# EAGLE library part A152-1066M1 (library saw-filters-narrowband)
A152-1066M1 Параметр Ед. изм. Мин. значение Тип. значение Макс. значение Центральная частота МГц 1064 1066 1068 Минимальное вносимое затухание дБ 2.3 2.5 2.8 Полоса среза по уровню -2 дБ МГц 39 41 43 Полоса среза по уровню -28 дБ МГц 74 76 80 Неравномерность АЧХ дБ - 2.5 10 Групповое время задержки нс - - - Гарантированное затухание дБ - 28 - Температурный диапазон °C -55 22 +85 Материал подложки - - Ниобат лития 64 -
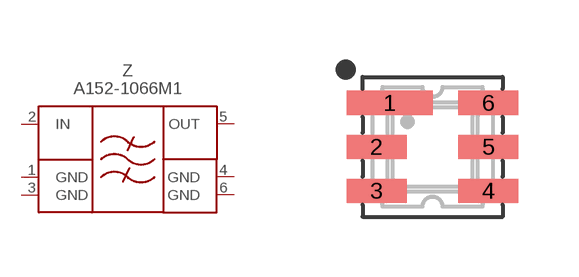
[diagram p85: symbol with the pads of DCC6; footprint DCC6]

Designator prefix Z

## A152-1066M1  [DCC6]
1  GND  pwr
2  IN  in
3  GND  pwr
4  GND  pwr
5  OUT  out
6  GND  pwr

## Footprint DCC6 (pad centres in mm)
smd 2.15 x 0.6: 1 -1.075,1.1
smd 1.5 x 0.6: 2 -1.4,0; 3 -1.4,-1.1; 4 1.4,-1.1; 5 1.4,0; 6 1.4,1.1